# Altium footprint library 1N4148.PcbLib: 2 footprints
Each footprint in its own frame and in the unit in brackets; x right, y up, seen from the top. Pads: shape width x height; smd on the part's side, far side on the other; paste and mask are expansions set on the pad; w line width, h text height; cw(c..) or ccw(c..) is an arc to the next point about the centre after c.
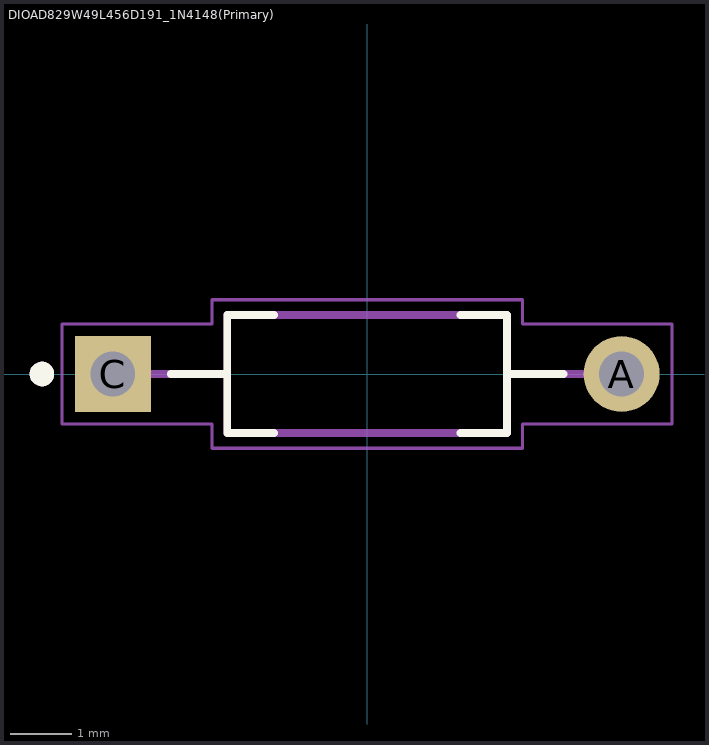
[diagram p0: the footprints below, top view; thin cyan lines are the x and y axes]

## DIOAD829W49L456D191_1N4148(Primary) [mm]
pads (2):
  round 1.238 hole 0.73: A(4.146,0)
  rect 1.238x1.238 hole 0.73: C(-4.146,0)
Top Overlay:
  circle w0.2: c-5.3,0 r0.1
  lines w0.127: -3.2,0 -2.28,0 ; -2.28,-0.96 -1.52,-0.96 ; -2.28,-0.95 -2.28,0 ; -1.52,0.96 -2.28,0.96 -2.28,0 ; 1.52,-0.96 2.28,-0.96 2.28,0 ; 1.52,0.96 2.28,0.96 ; 2.28,0.95 2.28,0 ; 3.2,0 2.28,0
Mechanical 4:
  circle w0.2: c-5.3,0 r0.1
  circle w0.2: c-5.3,0 r0.1
  lines w0.127: -2.28,-0.96 2.28,-0.96 ; -2.28,-0.96 -2.28,0 ; -2.28,-0.96 2.28,-0.96 ; -2.28,-0.96 -2.28,0 ; -2.28,0 -2.28,0.96 ; -2.28,0 -3.581,0 -2.28,0 ; -2.28,0 -2.28,0.96 ; -2.28,0.96 2.28,0.96 ; -2.28,0.96 2.28,0.96 ; 2.28,-0.96 2.28,0 ; 2.28,-0.96 2.28,0 ; 2.28,0 2.28,0.96 ; 2.28,0 3.581,0 2.28,0 ; 2.28,0 2.28,0.96
Mechanical 16:
  lines w0.05: -4.97,-0.815 -2.53,-0.815 -2.53,-1.21 2.53,-1.21 2.53,-0.815 4.97,-0.815 4.97,0.815 2.53,0.815 2.53,1.21 -2.53,1.21 -2.53,0.815 -4.97,0.815 -4.97,-0.815

## PCBComponent_1 [mm]